# Altium footprint library BNO055.PcbLib: 1 footprints
Each footprint in its own frame and in the unit in brackets; x right, y up, seen from the top. Pads: shape width x height; smd on the part's side, far side on the other; paste and mask are expansions set on the pad; w line width, h text height; cw(c..) or ccw(c..) is an arc to the next point about the centre after c.
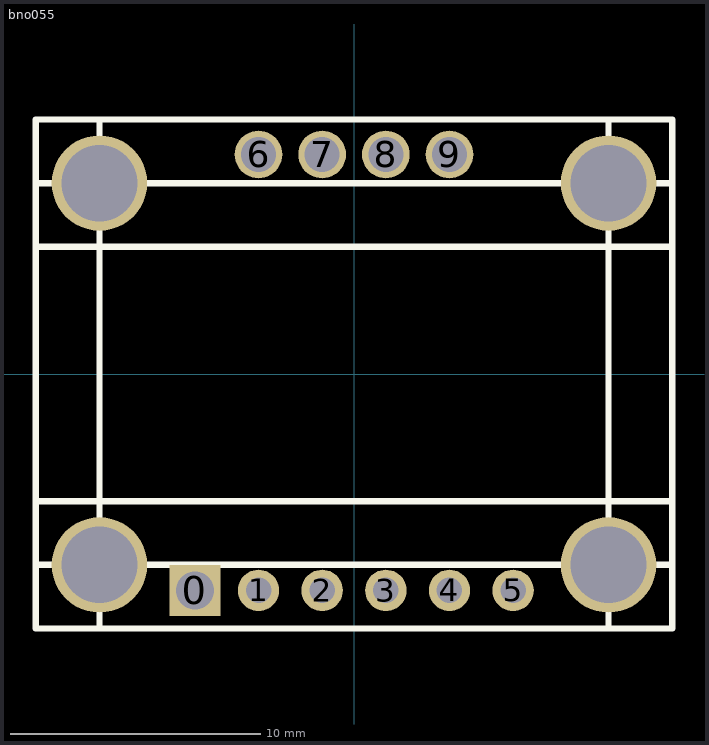
[diagram p0: the footprint, top view; thin cyan lines are the x and y axes]

## bno055 [mil]
pads (14):
  rect 80x80 hole 60: 0(-250,-340)
  round 65 hole 40: 1(-150,-340) 2(-50,-340) 3(50,-340) 4(150,-340) 5(250,-340)
  round 75 hole 55: 6(-150,345) 7(-50,345) 8(50,345) 9(150,345)
  round 150 hole 120: ""(-400,-300) ""(-400,300) ""(400,-300) ""(400,300)
Top Overlay:
  lines w10: -500,-300 500,-300 ; -500,-200 500,-200 ; -500,200 500,200 ; -500,300 500,300 ; -400,-400 -400,400 ; 400,-400 400,400 ; -500,-400 500,-400 500,400 -500,400 -500,-400
3D body "Adafruit__BNO055.STEP": height 228.39, standoff 63.03, extent -525,-390 525,410